# EAGLE library part PINHD-1X7 (library dpx-pinhead+)
PIN HEADER
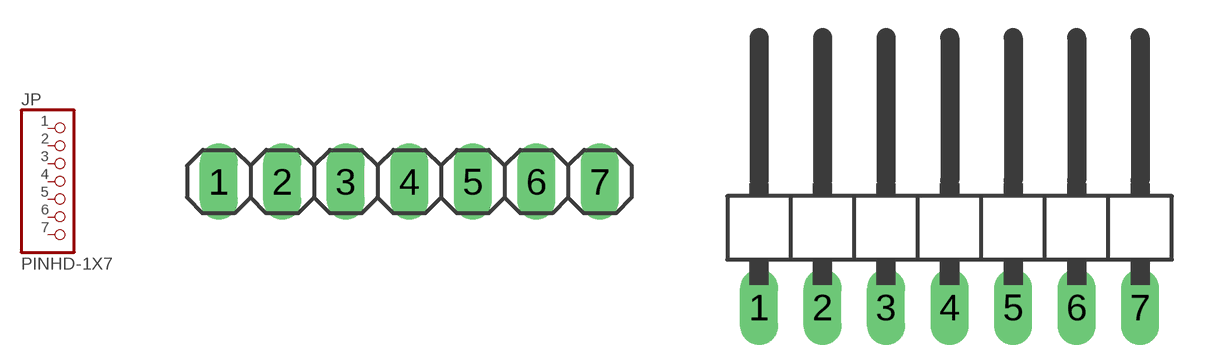
[diagram p21: symbol with the pads of 1X07; footprints 1X07, 1X07/90]

Designator prefix JP

## PINHD-1X7  [1X07]
1  1  pas
2  2  pas
3  3  pas
4  4  pas
5  5  pas
6  6  pas
7  7  pas

## PINHD-1X7/90  [1X07/90]
Pads as for 1X07

## PINHD-1X71X07_SMT  [1X07_SMT]
Pads as for 1X07

## Footprint 1X07 (pad centres in mm)
PIN HEADER
drill 1.016 long: 1 -7.62,0; 2 -5.08,0; 3 -2.54,0; 4 0,0; 5 2.54,0; 6 5.08,0; 7 7.62,0

## Footprint 1X07/90 (pad centres in mm)
PIN HEADER
drill 1.016 long: 1 -7.62,-3.81; 2 -5.08,-3.81; 3 -2.54,-3.81; 4 0,-3.81; 5 2.54,-3.81; 6 5.08,-3.81; 7 7.62,-3.81

## Footprint 1X07_SMT (pad centres in mm)
smd 1 x 2.5: 1 -7.62,1.52; 2 -5.08,-1.52; 3 -2.54,1.52; 4 0,-1.52; 5 2.54,1.52; 6 5.08,-1.52; 7 7.62,1.52